# Altium integrated library Atmel Security Smart Card.IntLib: 140 symbols (part 4 of 4)
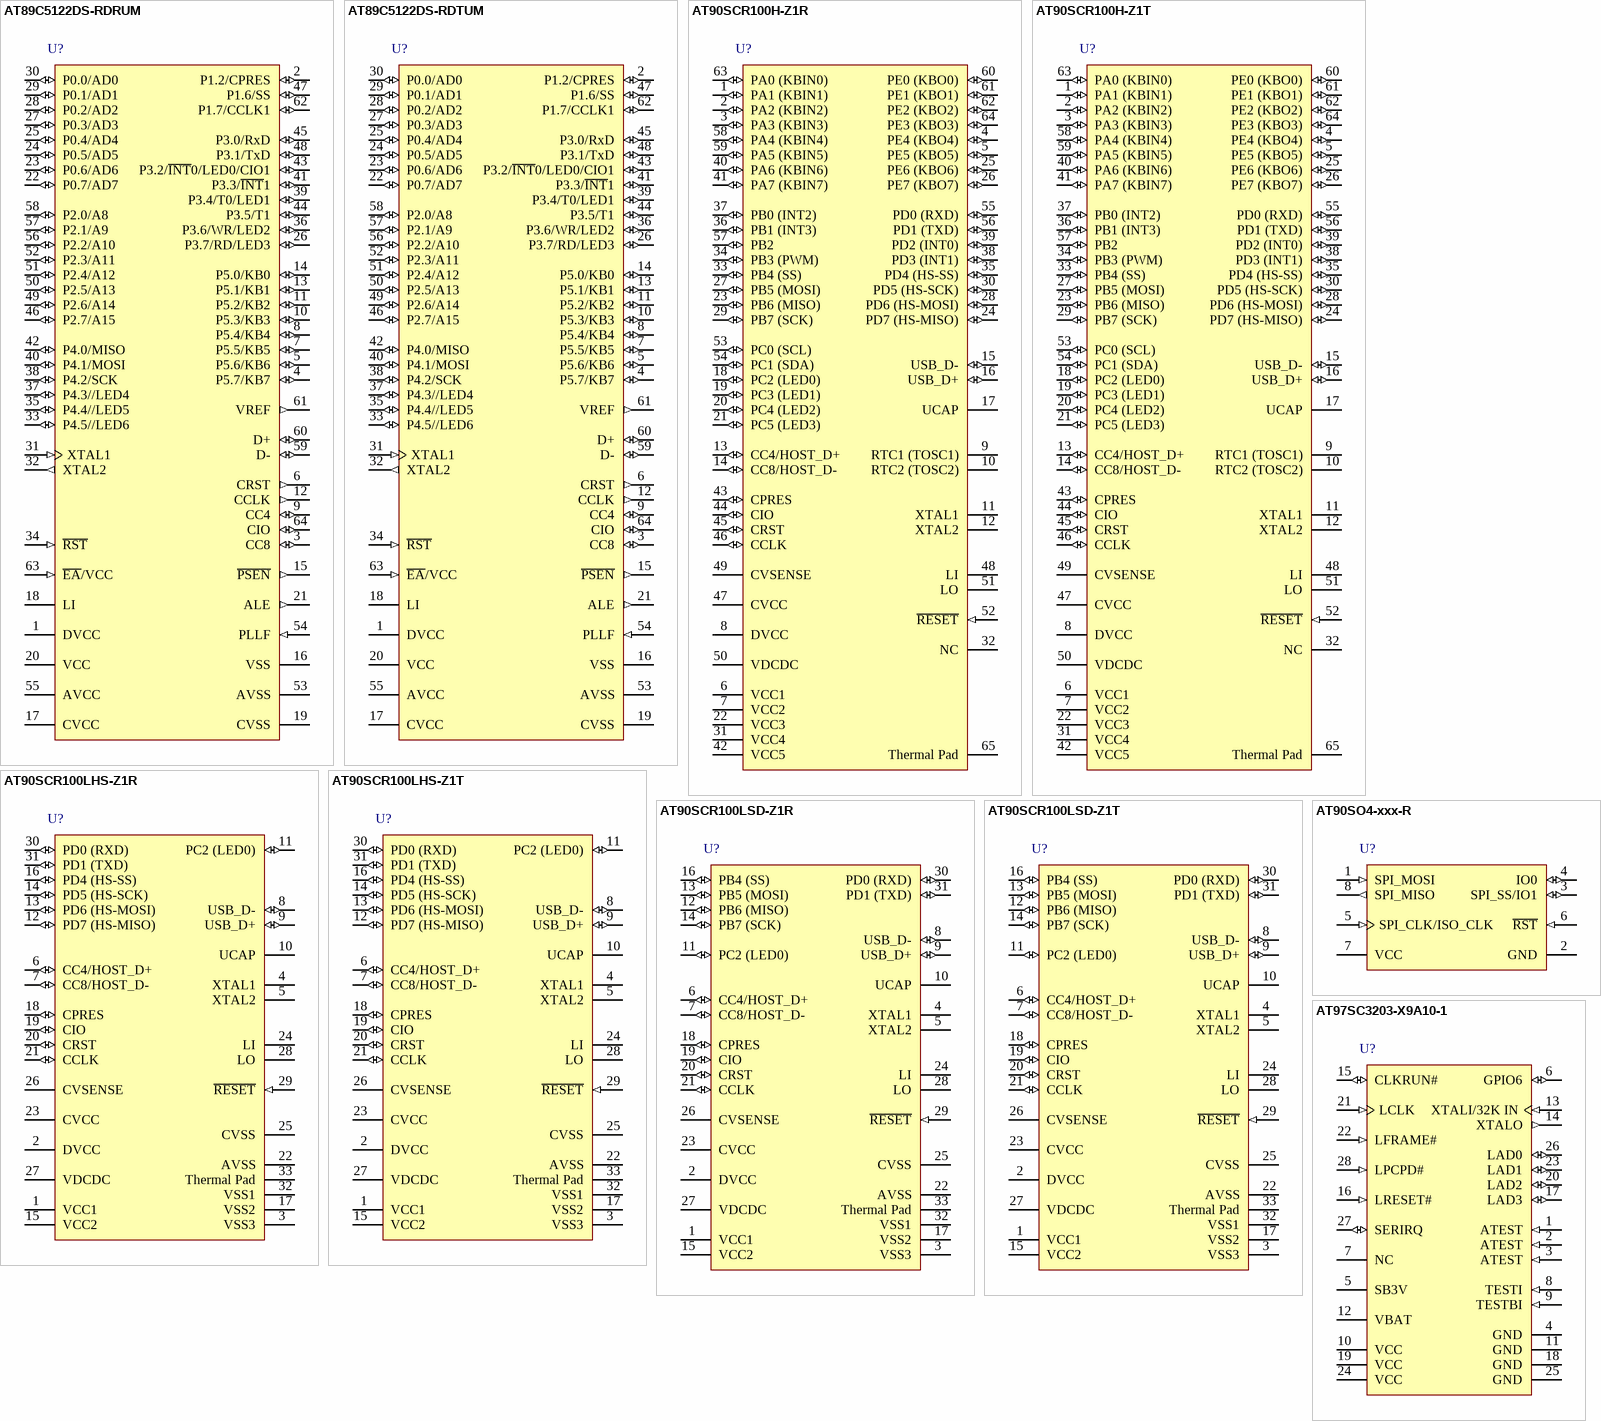
[diagram p11: symbols AT89C5122DS-RDRUM to AT97SC3203-X9A10-1]

## AT90SCR100LSD-Z1T
designator U?
8-bit AVR® Microcontroller for Smart Card Readers, Standard SPI, Industrial, 32-Pin QFN Pkg, Tray, Pb-Free; DatasheetVersion: revA, Jan-2009; PackageVersion: 1/01/2008; PackageReference: RQFN032_H; PackageDescription: 32-Pin Quad Flat No-Lead (QFN) Sawn,  5 x 5 x 0.9 mm Body, Pitch 0.50 mm, 3.50mm Exposed Pad; ComponentLink1Description: Manufacturer URL; ComponentLink1URL: http://www.atmel.com/; ComponentLink2Description: Datasheet; ComponentLink2URL: http://www.atmel.com/dyn/resources/prod_documents/AT90SCR100_Datasheet.pdf
footprint RQFN032_H_N (QFN, 32-Leads, Body 5x5mm, Pitch 0.5mm, Thermal Pad 3.6x3.6mm, IPC Medium Density)
footprint RQFN032_H_L (QFN, 32-Leads, Body 5x5mm, Pitch 0.5mm, Thermal Pad 3.6x3.6mm, IPC High Density)
footprint RQFN032_H_M (QFN, 32-Leads, Body 5x5mm, Pitch 0.5mm, Thermal Pad 3.6x3.6mm, IPC Low Density)
pins: 1 VCC1 (power), 2 DVCC (power), 3 VSS3 (power), 4 XTAL1, 5 XTAL2, 6 CC4/HOST_D+ (io), 7 CC8/HOST_D- (io), 8 USB_D- (io), 9 USB_D+ (io), 10 UCAP, 11 PC2 (LED0) (io), 12 PB6 (MISO) (io), 13 PB5 (MOSI) (io), 14 PB7 (SCK) (io), 15 VCC2 (power), 16 PB4 (SS) (io), 17 VSS2 (power), 18 CPRES (io), 19 CIO (io), 20 CRST (io), 21 CCLK (io), 22 AVSS (power), 23 CVCC (power), 24 LI, 25 CVSS (power), 26 CVSENSE, 27 VDCDC (power), 28 LO, 29 ~{RESET} (in), 30 PD0 (RXD) (io), 31 PD1 (TXD) (io), 32 VSS1 (power), 33 Thermal Pad (power)

## AT90SO4-xxx-R
designator U?
Secure Microcontroller for Security Modules, 8-Pin SOIC Pkg; DatasheetVersion: revA, Jan-2010; PackageVersion: 1/07/2009; PackageReference: T5; PackageDescription: 8-Lead, 0.208" Body, Plastic Small Outline Package; ComponentLink1Description: Manufacturer URL; ComponentLink1URL: http://www.atmel.com/; ComponentLink2Description: Datasheet; ComponentLink2URL: http://www.atmel.com/dyn/resources/prod_documents/AT90SO4_summary.pdf
footprint T5_N (SOP, 8-Leads, Body 5.2x5.3mm, Pitch 1.27mm, IPC Medium Density)
footprint T5_L (SOP, 8-Leads, Body 5.2x5.3mm, Pitch 1.27mm, IPC High Density)
footprint T5_M (SOP, 8-Leads, Body 5.2x5.3mm, Pitch 1.27mm, IPC Low Density)
pins: 1 SPI_MOSI (in), 2 GND (power), 3 SPI_SS/IO1 (io), 4 IO0 (io), 5 SPI_CLK/ISO_CLK (in), 6 ~{RST} (in), 7 VCC (power), 8 SPI_MISO (out)

## AT97SC3203-X9A10-1
designator U?
Trusted Platform Module, Low Pin Count Interface, Commercial (0 to 70 deg C), 28-Pin TSSOP, Pb-Free; DatasheetVersion: revD, Jan-2008; PackageVersion: revA, Jan-2002; PackageReference: 28A3; PackageDescription: 28-Pin Thin Shrink Small Outline Package, 6.1 x 9.7 mm Body, 0.65 mm Pitch (TSSOP); Code_JEDEC: MO-153-DB; ComponentLink1Description: Manufacturer URL; ComponentLink1URL: http://www.atmel.com/; ComponentLink2Description: Datasheet; ComponentLink2URL: http://www.atmel.com/dyn/resources/prod_documents/5116s.pdf
footprint 28A3_N (TSOP, 28-Leads, Body 9.7x6.1mm, Pitch 0.65mm, IPC Medium Density)
footprint 28A3_L (TSOP, 28-Leads, Body 9.7x6.1mm, Pitch 0.65mm, IPC High Density)
footprint 28A3_M (TSOP, 28-Leads, Body 9.7x6.1mm, Pitch 0.65mm, IPC Low Density)
pins: 1 ATEST (in), 2 ATEST (in), 3 ATEST (in), 4 GND (power), 5 SB3V (power), 6 GPIO6 (io), 7 NC, 8 TESTI (in), 9 TESTBI (in), 10 VCC (power), 11 GND (power), 12 VBAT (power), 13 XTALI/32K IN (in), 14 XTALO (out), 15 CLKRUN# (io), 16 LRESET# (in), 17 LAD3 (io), 18 GND (power), 19 VCC (power), 20 LAD2 (io), 21 LCLK (in), 22 LFRAME# (in), 23 LAD1 (io), 24 VCC (power), 25 GND (power), 26 LAD0 (io), 27 SERIRQ (io), 28 LPCPD# (in)

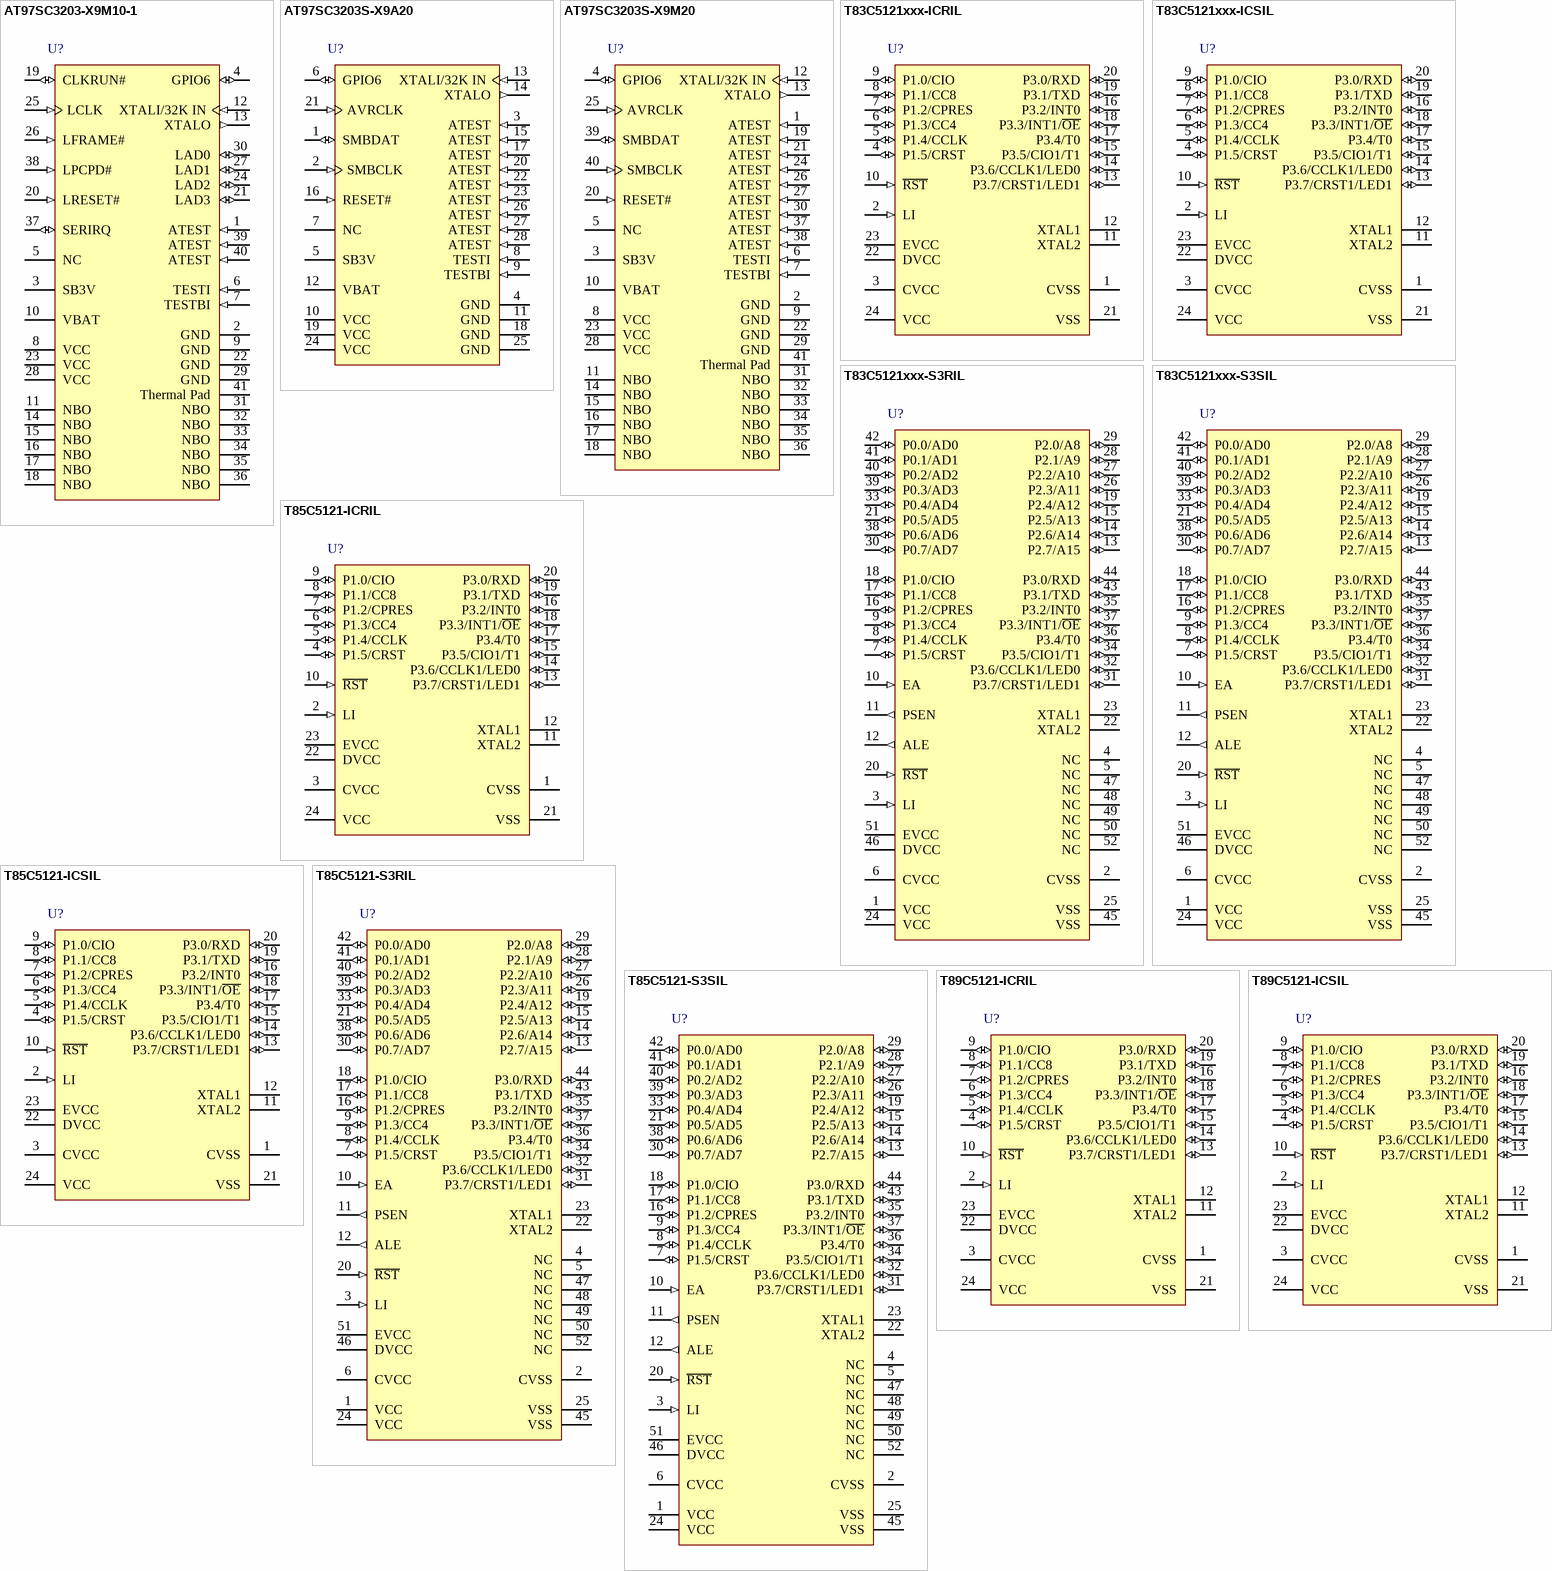
[diagram p8: symbols AT97SC3203-X9M10-1 to T89C5121-ICSIL]

## AT97SC3203-X9M10-1
designator U?
Trusted Platform Module, Low Pin Count Interface, Commercial (0 to 70 deg C), 40-Pin QFN, Pb-Free; DatasheetVersion: revD, Jan-2008; PackageVersion: revC, Sep-2007; PackageReference: 40ML1; PackageDescription: 40-Pin Molded Quad Flat No-Lead, 6 x 6 mm Body, 0.5 mm Pitch, Punched (QFN); Code_JEDEC: MO-220WJJD-2; ComponentLink1Description: Manufacturer URL; ComponentLink1URL: http://www.atmel.com/; ComponentLink2Description: Datasheet; ComponentLink2URL: http://www.atmel.com/dyn/resources/prod_documents/5116s.pdf
footprint 40ML1_N (QFN, 40-Leads, Body 6x6mm, Pitch 0.5mm, Thermal Pad 4.3x4.3mm, IPC Medium Density)
footprint 40ML1_L (QFN, 40-Leads, Body 6x6mm, Pitch 0.5mm, Thermal Pad 4.3x4.3mm, IPC High Density)
footprint 40ML1_M (QFN, 40-Leads, Body 6x6mm, Pitch 0.5mm, Thermal Pad 4.3x4.3mm, IPC Low Density)
pins: 1 ATEST (in), 2 GND (power), 3 SB3V (power), 4 GPIO6 (io), 5 NC, 6 TESTI (in), 7 TESTBI (in), 8 VCC (power), 9 GND (power), 10 VBAT (power), 11 NBO, 12 XTALI/32K IN (in), 13 XTALO (out), 14 NBO, 15 NBO, 16 NBO, 17 NBO, 18 NBO, 19 CLKRUN# (io), 20 LRESET# (in), 21 LAD3 (io), 22 GND (power), 23 VCC (power), 24 LAD2 (io), 25 LCLK (in), 26 LFRAME# (in), 27 LAD1 (io), 28 VCC (power), 29 GND (power), 30 LAD0 (io), 31 NBO, 32 NBO, 33 NBO, 34 NBO, 35 NBO, 36 NBO, 37 SERIRQ (io), 38 LPCPD# (in), 39 ATEST (in), 40 ATEST (in), 41 Thermal Pad (power)

## AT97SC3203S-X9A20
designator U?
Trusted Platform Module, SMBus Two-Wire Interface, Commercial (0 to 70 deg C), 28-Pin TSSOP, Pb-Free; DatasheetVersion: revD, Jan-2008; PackageVersion: revA, Jan-2002; PackageReference: 28A3; PackageDescription: 28-Pin Thin Shrink Small Outline Package, 6.1 x 9.7 mm Body, 0.65 mm Pitch (TSSOP); Code_JEDEC: MO-153-DB; ComponentLink1Description: Manufacturer URL; ComponentLink1URL: http://www.atmel.com/; ComponentLink2Description: Datasheet; ComponentLink2URL: http://www.atmel.com/dyn/resources/prod_documents/5132s.pdf
footprint 28A3_N (TSOP, 28-Leads, Body 9.7x6.1mm, Pitch 0.65mm, IPC Medium Density)
footprint 28A3_L (TSOP, 28-Leads, Body 9.7x6.1mm, Pitch 0.65mm, IPC High Density)
footprint 28A3_M (TSOP, 28-Leads, Body 9.7x6.1mm, Pitch 0.65mm, IPC Low Density)
pins: 1 SMBDAT (io), 2 SMBCLK (in), 3 ATEST (in), 4 GND (power), 5 SB3V (power), 6 GPIO6 (io), 7 NC, 8 TESTI (in), 9 TESTBI (in), 10 VCC (power), 11 GND (power), 12 VBAT (power), 13 XTALI/32K IN (in), 14 XTALO (out), 15 ATEST (in), 16 RESET# (in), 17 ATEST (in), 18 GND (power), 19 VCC (power), 20 ATEST (in), 21 AVRCLK (in), 22 ATEST (in), 23 ATEST (in), 24 VCC (power), 25 GND (power), 26 ATEST (in), 27 ATEST (in), 28 ATEST (in)

## AT97SC3203S-X9M20
designator U?
Trusted Platform Module, SMBus Two-Wire Interface, Commercial (0 to 70 deg C), 40-Pin QFN, Pb-Free; DatasheetVersion: revD, Jan-2008; PackageVersion: revC, Sep-2007; PackageReference: 40ML1; PackageDescription: 40-Pin Molded Quad Flat No-Lead, 6 x 6 mm Body, 0.5 mm Pitch, Punched (QFN); Code_JEDEC: MO-220WJJD-2; ComponentLink1Description: Manufacturer URL; ComponentLink1URL: http://www.atmel.com/; ComponentLink2Description: Datasheet; ComponentLink2URL: http://www.atmel.com/dyn/resources/prod_documents/5132s.pdf
footprint 40ML1_N (QFN, 40-Leads, Body 6x6mm, Pitch 0.5mm, Thermal Pad 4.3x4.3mm, IPC Medium Density)
footprint 40ML1_L (QFN, 40-Leads, Body 6x6mm, Pitch 0.5mm, Thermal Pad 4.3x4.3mm, IPC High Density)
footprint 40ML1_M (QFN, 40-Leads, Body 6x6mm, Pitch 0.5mm, Thermal Pad 4.3x4.3mm, IPC Low Density)
pins: 1 ATEST (in), 2 GND (power), 3 SB3V (power), 4 GPIO6 (io), 5 NC, 6 TESTI (in), 7 TESTBI (in), 8 VCC (power), 9 GND (power), 10 VBAT (power), 11 NBO, 12 XTALI/32K IN (in), 13 XTALO (out), 14 NBO, 15 NBO, 16 NBO, 17 NBO, 18 NBO, 19 ATEST (in), 20 RESET# (in), 21 ATEST (in), 22 GND (power), 23 VCC (power), 24 ATEST (in), 25 AVRCLK (in), 26 ATEST (in), 27 ATEST (in), 28 VCC (power), 29 GND (power), 30 ATEST (in), 31 NBO, 32 NBO, 33 NBO, 34 NBO, 35 NBO, 36 NBO, 37 ATEST (in), 38 ATEST (in), 39 SMBDAT (io), 40 SMBCLK (in), 41 Thermal Pad (power)

## T83C5121xxx-ICRIL
designator U?
8-bit Microcontroller with Multiprotocol Smart Card Interface, Industrial, 24-Pin SOIC Pkg, Tape and Reel; DatasheetVersion: revG, July-2006; PackageVersion: 1/07/2006; PackageReference: SSOP24; PackageDescription: 24-Pin Shrink Small Outline Package, 8.2 x 5.3 mm Body, 0.65 mm Pitch; Code_JEDEC: MO-150-AG; ComponentLink1Description: Manufacturer URL; ComponentLink1URL: http://www.atmel.com/; ComponentLink2Description: Datasheet; ComponentLink2URL: http://www.atmel.com/dyn/resources/prod_documents/doc4164.pdf
footprint SSOP24_N (SOP, 24-Leads, Body 8.2x5.3mm, Pitch 0.65mm, IPC Medium Density)
footprint SSOP24_L (SOP, 24-Leads, Body 8.2x5.3mm, Pitch 0.65mm, IPC High Density)
footprint SSOP24_M (SOP, 24-Leads, Body 8.2x5.3mm, Pitch 0.65mm, IPC Low Density)
pins: 1 CVSS (power), 2 LI (in), 3 CVCC (power), 4 P1.5/CRST (io), 5 P1.4/CCLK (io), 6 P1.3/CC4 (io), 7 P1.2/CPRES (io), 8 P1.1/CC8 (io), 9 P1.0/CIO (io), 10 ~{RST} (in), 11 XTAL2, 12 XTAL1, 13 P3.7/CRST1/LED1 (io), 14 P3.6/CCLK1/LED0 (io), 15 P3.5/CIO1/T1 (io), 16 P3.2/INT0 (io), 17 P3.4/T0 (io), 18 P3.3/INT1/~{OE} (io), 19 P3.1/TXD (io), 20 P3.0/RXD (io), 21 VSS (power), 22 DVCC (power), 23 EVCC (power), 24 VCC (power)

## T83C5121xxx-ICSIL
designator U?
8-bit Microcontroller with Multiprotocol Smart Card Interface, Industrial, 24-Pin SOIC Pkg, Stick; DatasheetVersion: revG, July-2006; PackageVersion: 1/07/2006; PackageReference: SSOP24; PackageDescription: 24-Pin Shrink Small Outline Package, 8.2 x 5.3 mm Body, 0.65 mm Pitch; Code_JEDEC: MO-150-AG; ComponentLink1Description: Manufacturer URL; ComponentLink1URL: http://www.atmel.com/; ComponentLink2Description: Datasheet; ComponentLink2URL: http://www.atmel.com/dyn/resources/prod_documents/doc4164.pdf
footprint SSOP24_N (SOP, 24-Leads, Body 8.2x5.3mm, Pitch 0.65mm, IPC Medium Density)
footprint SSOP24_L (SOP, 24-Leads, Body 8.2x5.3mm, Pitch 0.65mm, IPC High Density)
footprint SSOP24_M (SOP, 24-Leads, Body 8.2x5.3mm, Pitch 0.65mm, IPC Low Density)
pins: 1 CVSS (power), 2 LI (in), 3 CVCC (power), 4 P1.5/CRST (io), 5 P1.4/CCLK (io), 6 P1.3/CC4 (io), 7 P1.2/CPRES (io), 8 P1.1/CC8 (io), 9 P1.0/CIO (io), 10 ~{RST} (in), 11 XTAL2, 12 XTAL1, 13 P3.7/CRST1/LED1 (io), 14 P3.6/CCLK1/LED0 (io), 15 P3.5/CIO1/T1 (io), 16 P3.2/INT0 (io), 17 P3.4/T0 (io), 18 P3.3/INT1/~{OE} (io), 19 P3.1/TXD (io), 20 P3.0/RXD (io), 21 VSS (power), 22 DVCC (power), 23 EVCC (power), 24 VCC (power)

## T83C5121xxx-S3RIL
designator U?
8-bit Microcontroller with Multiprotocol Smart Card Interface, Industrial, 52-Pin LCC Pkg, Tape and Reel; DatasheetVersion: revG, July-2006; PackageVersion: 1/07/2006; PackageReference: PLCC52; PackageDescription: 52-Pin Leaded Chip Carrier ,19 x 19 mm Body, 1.27 mm Pitch; Code_IPC: PLCC-52; ComponentLink1Description: Manufacturer URL; ComponentLink1URL: http://www.atmel.com/; ComponentLink2Description: Datasheet; ComponentLink2URL: http://www.atmel.com/dyn/resources/prod_documents/doc4164.pdf
footprint PLCC52_N (Leaded Chip Carrier, 52-Leads, Body 19x19mm, Pitch 1.27mm, IPC Medium Density)
footprint PLCC52_L (Leaded Chip Carrier, 52-Leads, Body 19x19mm, Pitch 1.27mm, IPC High Density)
footprint PLCC52_M (Leaded Chip Carrier, 52-Leads, Body 19x19mm, Pitch 1.27mm, IPC Low Density)
pins: 1 VCC (power), 2 CVSS (power), 3 LI (in), 4 NC, 5 NC, 6 CVCC (power), 7 P1.5/CRST (io), 8 P1.4/CCLK (io), 9 P1.3/CC4 (io), 10 EA (in), 11 PSEN (out), 12 ALE (out), 13 P2.7/A15 (io), 14 P2.6/A14 (io), 15 P2.5/A13 (io), 16 P1.2/CPRES (io), 17 P1.1/CC8 (io), 18 P1.0/CIO (io), 19 P2.4/A12 (io), 20 ~{RST} (in), 21 P0.5/AD5 (io), 22 XTAL2, 23 XTAL1, 24 VCC (power), 25 VSS (power), 26 P2.3/A11 (io), 27 P2.2/A10 (io), 28 P2.1/A9 (io), 29 P2.0/A8 (io), 30 P0.7/AD7 (io), 31 P3.7/CRST1/LED1 (io), 32 P3.6/CCLK1/LED0 (io), 33 P0.4/AD4 (io), 34 P3.5/CIO1/T1 (io), 35 P3.2/INT0 (io), 36 P3.4/T0 (io), 37 P3.3/INT1/~{OE} (io), 38 P0.6/AD6 (io), 39 P0.3/AD3 (io), 40 P0.2/AD2 (io), 41 P0.1/AD1 (io), 42 P0.0/AD0 (io), 43 P3.1/TXD (io), 44 P3.0/RXD (io), 45 VSS (power), 46 DVCC (power), 47 NC, 48 NC, 49 NC, 50 NC, 51 EVCC (power), 52 NC

## T83C5121xxx-S3SIL
designator U?
8-bit Microcontroller with Multiprotocol Smart Card Interface, Industrial, 52-Pin LCC Pkg, Stick; DatasheetVersion: revG, July-2006; PackageVersion: 1/07/2006; PackageReference: PLCC52; PackageDescription: 52-Pin Leaded Chip Carrier ,19 x 19 mm Body, 1.27 mm Pitch; Code_IPC: PLCC-52; ComponentLink1Description: Manufacturer URL; ComponentLink1URL: http://www.atmel.com/; ComponentLink2Description: Datasheet; ComponentLink2URL: http://www.atmel.com/dyn/resources/prod_documents/doc4164.pdf
footprint PLCC52_N (Leaded Chip Carrier, 52-Leads, Body 19x19mm, Pitch 1.27mm, IPC Medium Density)
footprint PLCC52_L (Leaded Chip Carrier, 52-Leads, Body 19x19mm, Pitch 1.27mm, IPC High Density)
footprint PLCC52_M (Leaded Chip Carrier, 52-Leads, Body 19x19mm, Pitch 1.27mm, IPC Low Density)
pins: 1 VCC (power), 2 CVSS (power), 3 LI (in), 4 NC, 5 NC, 6 CVCC (power), 7 P1.5/CRST (io), 8 P1.4/CCLK (io), 9 P1.3/CC4 (io), 10 EA (in), 11 PSEN (out), 12 ALE (out), 13 P2.7/A15 (io), 14 P2.6/A14 (io), 15 P2.5/A13 (io), 16 P1.2/CPRES (io), 17 P1.1/CC8 (io), 18 P1.0/CIO (io), 19 P2.4/A12 (io), 20 ~{RST} (in), 21 P0.5/AD5 (io), 22 XTAL2, 23 XTAL1, 24 VCC (power), 25 VSS (power), 26 P2.3/A11 (io), 27 P2.2/A10 (io), 28 P2.1/A9 (io), 29 P2.0/A8 (io), 30 P0.7/AD7 (io), 31 P3.7/CRST1/LED1 (io), 32 P3.6/CCLK1/LED0 (io), 33 P0.4/AD4 (io), 34 P3.5/CIO1/T1 (io), 35 P3.2/INT0 (io), 36 P3.4/T0 (io), 37 P3.3/INT1/~{OE} (io), 38 P0.6/AD6 (io), 39 P0.3/AD3 (io), 40 P0.2/AD2 (io), 41 P0.1/AD1 (io), 42 P0.0/AD0 (io), 43 P3.1/TXD (io), 44 P3.0/RXD (io), 45 VSS (power), 46 DVCC (power), 47 NC, 48 NC, 49 NC, 50 NC, 51 EVCC (power), 52 NC

## T85C5121-ICRIL
designator U?
8-bit Microcontroller with Multiprotocol Smart Card Interface, Industrial, 24-Pin SOIC Pkg, Tape and Reel; DatasheetVersion: revG, July-2006; PackageVersion: 1/07/2006; PackageReference: SSOP24; PackageDescription: 24-Pin Shrink Small Outline Package, 8.2 x 5.3 mm Body, 0.65 mm Pitch; Code_JEDEC: MO-150-AG; ComponentLink1Description: Manufacturer URL; ComponentLink1URL: http://www.atmel.com/; ComponentLink2Description: Datasheet; ComponentLink2URL: http://www.atmel.com/dyn/resources/prod_documents/doc4164.pdf
footprint SSOP24_N (SOP, 24-Leads, Body 8.2x5.3mm, Pitch 0.65mm, IPC Medium Density)
footprint SSOP24_L (SOP, 24-Leads, Body 8.2x5.3mm, Pitch 0.65mm, IPC High Density)
footprint SSOP24_M (SOP, 24-Leads, Body 8.2x5.3mm, Pitch 0.65mm, IPC Low Density)
pins: 1 CVSS (power), 2 LI (in), 3 CVCC (power), 4 P1.5/CRST (io), 5 P1.4/CCLK (io), 6 P1.3/CC4 (io), 7 P1.2/CPRES (io), 8 P1.1/CC8 (io), 9 P1.0/CIO (io), 10 ~{RST} (in), 11 XTAL2, 12 XTAL1, 13 P3.7/CRST1/LED1 (io), 14 P3.6/CCLK1/LED0 (io), 15 P3.5/CIO1/T1 (io), 16 P3.2/INT0 (io), 17 P3.4/T0 (io), 18 P3.3/INT1/~{OE} (io), 19 P3.1/TXD (io), 20 P3.0/RXD (io), 21 VSS (power), 22 DVCC (power), 23 EVCC (power), 24 VCC (power)

## T85C5121-ICSIL
designator U?
8-bit Microcontroller with Multiprotocol Smart Card Interface, Industrial, 24-Pin SOIC Pkg, Stick; DatasheetVersion: revG, July-2006; PackageVersion: 1/07/2006; PackageReference: SSOP24; PackageDescription: 24-Pin Shrink Small Outline Package, 8.2 x 5.3 mm Body, 0.65 mm Pitch; Code_JEDEC: MO-150-AG; ComponentLink1Description: Manufacturer URL; ComponentLink1URL: http://www.atmel.com/; ComponentLink2Description: Datasheet; ComponentLink2URL: http://www.atmel.com/dyn/resources/prod_documents/doc4164.pdf
footprint SSOP24_N (SOP, 24-Leads, Body 8.2x5.3mm, Pitch 0.65mm, IPC Medium Density)
footprint SSOP24_L (SOP, 24-Leads, Body 8.2x5.3mm, Pitch 0.65mm, IPC High Density)
footprint SSOP24_M (SOP, 24-Leads, Body 8.2x5.3mm, Pitch 0.65mm, IPC Low Density)
pins: 1 CVSS (power), 2 LI (in), 3 CVCC (power), 4 P1.5/CRST (io), 5 P1.4/CCLK (io), 6 P1.3/CC4 (io), 7 P1.2/CPRES (io), 8 P1.1/CC8 (io), 9 P1.0/CIO (io), 10 ~{RST} (in), 11 XTAL2, 12 XTAL1, 13 P3.7/CRST1/LED1 (io), 14 P3.6/CCLK1/LED0 (io), 15 P3.5/CIO1/T1 (io), 16 P3.2/INT0 (io), 17 P3.4/T0 (io), 18 P3.3/INT1/~{OE} (io), 19 P3.1/TXD (io), 20 P3.0/RXD (io), 21 VSS (power), 22 DVCC (power), 23 EVCC (power), 24 VCC (power)

## T85C5121-S3RIL
designator U?
8-bit Microcontroller with Multiprotocol Smart Card Interface, Industrial, 52-Pin LCC Pkg, Tape and Reel; DatasheetVersion: revG, July-2006; PackageVersion: 1/07/2006; PackageReference: PLCC52; PackageDescription: 52-Pin Leaded Chip Carrier ,19 x 19 mm Body, 1.27 mm Pitch; Code_IPC: PLCC-52; ComponentLink1Description: Manufacturer URL; ComponentLink1URL: http://www.atmel.com/; ComponentLink2Description: Datasheet; ComponentLink2URL: http://www.atmel.com/dyn/resources/prod_documents/doc4164.pdf
footprint PLCC52_N (Leaded Chip Carrier, 52-Leads, Body 19x19mm, Pitch 1.27mm, IPC Medium Density)
footprint PLCC52_L (Leaded Chip Carrier, 52-Leads, Body 19x19mm, Pitch 1.27mm, IPC High Density)
footprint PLCC52_M (Leaded Chip Carrier, 52-Leads, Body 19x19mm, Pitch 1.27mm, IPC Low Density)
pins: 1 VCC (power), 2 CVSS (power), 3 LI (in), 4 NC, 5 NC, 6 CVCC (power), 7 P1.5/CRST (io), 8 P1.4/CCLK (io), 9 P1.3/CC4 (io), 10 EA (in), 11 PSEN (out), 12 ALE (out), 13 P2.7/A15 (io), 14 P2.6/A14 (io), 15 P2.5/A13 (io), 16 P1.2/CPRES (io), 17 P1.1/CC8 (io), 18 P1.0/CIO (io), 19 P2.4/A12 (io), 20 ~{RST} (in), 21 P0.5/AD5 (io), 22 XTAL2, 23 XTAL1, 24 VCC (power), 25 VSS (power), 26 P2.3/A11 (io), 27 P2.2/A10 (io), 28 P2.1/A9 (io), 29 P2.0/A8 (io), 30 P0.7/AD7 (io), 31 P3.7/CRST1/LED1 (io), 32 P3.6/CCLK1/LED0 (io), 33 P0.4/AD4 (io), 34 P3.5/CIO1/T1 (io), 35 P3.2/INT0 (io), 36 P3.4/T0 (io), 37 P3.3/INT1/~{OE} (io), 38 P0.6/AD6 (io), 39 P0.3/AD3 (io), 40 P0.2/AD2 (io), 41 P0.1/AD1 (io), 42 P0.0/AD0 (io), 43 P3.1/TXD (io), 44 P3.0/RXD (io), 45 VSS (power), 46 DVCC (power), 47 NC, 48 NC, 49 NC, 50 NC, 51 EVCC (power), 52 NC

## T85C5121-S3SIL
designator U?
8-bit Microcontroller with Multiprotocol Smart Card Interface, Industrial, 52-Pin LCC Pkg, Stick; DatasheetVersion: revG, July-2006; PackageVersion: 1/07/2006; PackageReference: PLCC52; PackageDescription: 52-Pin Leaded Chip Carrier ,19 x 19 mm Body, 1.27 mm Pitch; Code_IPC: PLCC-52; ComponentLink1Description: Manufacturer URL; ComponentLink1URL: http://www.atmel.com/; ComponentLink2Description: Datasheet; ComponentLink2URL: http://www.atmel.com/dyn/resources/prod_documents/doc4164.pdf
footprint PLCC52_N (Leaded Chip Carrier, 52-Leads, Body 19x19mm, Pitch 1.27mm, IPC Medium Density)
footprint PLCC52_L (Leaded Chip Carrier, 52-Leads, Body 19x19mm, Pitch 1.27mm, IPC High Density)
footprint PLCC52_M (Leaded Chip Carrier, 52-Leads, Body 19x19mm, Pitch 1.27mm, IPC Low Density)
pins: 1 VCC (power), 2 CVSS (power), 3 LI (in), 4 NC, 5 NC, 6 CVCC (power), 7 P1.5/CRST (io), 8 P1.4/CCLK (io), 9 P1.3/CC4 (io), 10 EA (in), 11 PSEN (out), 12 ALE (out), 13 P2.7/A15 (io), 14 P2.6/A14 (io), 15 P2.5/A13 (io), 16 P1.2/CPRES (io), 17 P1.1/CC8 (io), 18 P1.0/CIO (io), 19 P2.4/A12 (io), 20 ~{RST} (in), 21 P0.5/AD5 (io), 22 XTAL2, 23 XTAL1, 24 VCC (power), 25 VSS (power), 26 P2.3/A11 (io), 27 P2.2/A10 (io), 28 P2.1/A9 (io), 29 P2.0/A8 (io), 30 P0.7/AD7 (io), 31 P3.7/CRST1/LED1 (io), 32 P3.6/CCLK1/LED0 (io), 33 P0.4/AD4 (io), 34 P3.5/CIO1/T1 (io), 35 P3.2/INT0 (io), 36 P3.4/T0 (io), 37 P3.3/INT1/~{OE} (io), 38 P0.6/AD6 (io), 39 P0.3/AD3 (io), 40 P0.2/AD2 (io), 41 P0.1/AD1 (io), 42 P0.0/AD0 (io), 43 P3.1/TXD (io), 44 P3.0/RXD (io), 45 VSS (power), 46 DVCC (power), 47 NC, 48 NC, 49 NC, 50 NC, 51 EVCC (power), 52 NC

## T89C5121-ICRIL
designator U?
8-bit Microcontroller with Multiprotocol Smart Card Interface, Industrial, 24-Pin SOIC Pkg, Tape and Reel; DatasheetVersion: revG, July-2006; PackageVersion: 1/07/2006; PackageReference: SSOP24; PackageDescription: 24-Pin Shrink Small Outline Package, 8.2 x 5.3 mm Body, 0.65 mm Pitch; Code_JEDEC: MO-150-AG; ComponentLink1Description: Manufacturer URL; ComponentLink1URL: http://www.atmel.com/; ComponentLink2Description: Datasheet; ComponentLink2URL: http://www.atmel.com/dyn/resources/prod_documents/doc4164.pdf
footprint SSOP24_N (SOP, 24-Leads, Body 8.2x5.3mm, Pitch 0.65mm, IPC Medium Density)
footprint SSOP24_L (SOP, 24-Leads, Body 8.2x5.3mm, Pitch 0.65mm, IPC High Density)
footprint SSOP24_M (SOP, 24-Leads, Body 8.2x5.3mm, Pitch 0.65mm, IPC Low Density)
pins: 1 CVSS (power), 2 LI (in), 3 CVCC (power), 4 P1.5/CRST (io), 5 P1.4/CCLK (io), 6 P1.3/CC4 (io), 7 P1.2/CPRES (io), 8 P1.1/CC8 (io), 9 P1.0/CIO (io), 10 ~{RST} (in), 11 XTAL2, 12 XTAL1, 13 P3.7/CRST1/LED1 (io), 14 P3.6/CCLK1/LED0 (io), 15 P3.5/CIO1/T1 (io), 16 P3.2/INT0 (io), 17 P3.4/T0 (io), 18 P3.3/INT1/~{OE} (io), 19 P3.1/TXD (io), 20 P3.0/RXD (io), 21 VSS (power), 22 DVCC (power), 23 EVCC (power), 24 VCC (power)

## T89C5121-ICSIL
designator U?
8-bit Microcontroller with Multiprotocol Smart Card Interface, Industrial, 24-Pin SOIC Pkg, Stick; DatasheetVersion: revG, July-2006; PackageVersion: 1/07/2006; PackageReference: SSOP24; PackageDescription: 24-Pin Shrink Small Outline Package, 8.2 x 5.3 mm Body, 0.65 mm Pitch; Code_JEDEC: MO-150-AG; ComponentLink1Description: Manufacturer URL; ComponentLink1URL: http://www.atmel.com/; ComponentLink2Description: Datasheet; ComponentLink2URL: http://www.atmel.com/dyn/resources/prod_documents/doc4164.pdf
footprint SSOP24_N (SOP, 24-Leads, Body 8.2x5.3mm, Pitch 0.65mm, IPC Medium Density)
footprint SSOP24_L (SOP, 24-Leads, Body 8.2x5.3mm, Pitch 0.65mm, IPC High Density)
footprint SSOP24_M (SOP, 24-Leads, Body 8.2x5.3mm, Pitch 0.65mm, IPC Low Density)
pins: 1 CVSS (power), 2 LI (in), 3 CVCC (power), 4 P1.5/CRST (io), 5 P1.4/CCLK (io), 6 P1.3/CC4 (io), 7 P1.2/CPRES (io), 8 P1.1/CC8 (io), 9 P1.0/CIO (io), 10 ~{RST} (in), 11 XTAL2, 12 XTAL1, 13 P3.7/CRST1/LED1 (io), 14 P3.6/CCLK1/LED0 (io), 15 P3.5/CIO1/T1 (io), 16 P3.2/INT0 (io), 17 P3.4/T0 (io), 18 P3.3/INT1/~{OE} (io), 19 P3.1/TXD (io), 20 P3.0/RXD (io), 21 VSS (power), 22 DVCC (power), 23 EVCC (power), 24 VCC (power)